# Altium footprint library TO-247-3.PcbLib: 1 footprints
Each footprint in its own frame and in the unit in brackets; x right, y up, seen from the top. Pads: shape width x height; smd on the part's side, far side on the other; paste and mask are expansions set on the pad; w line width, h text height; cw(c..) or ccw(c..) is an arc to the next point about the centre after c.
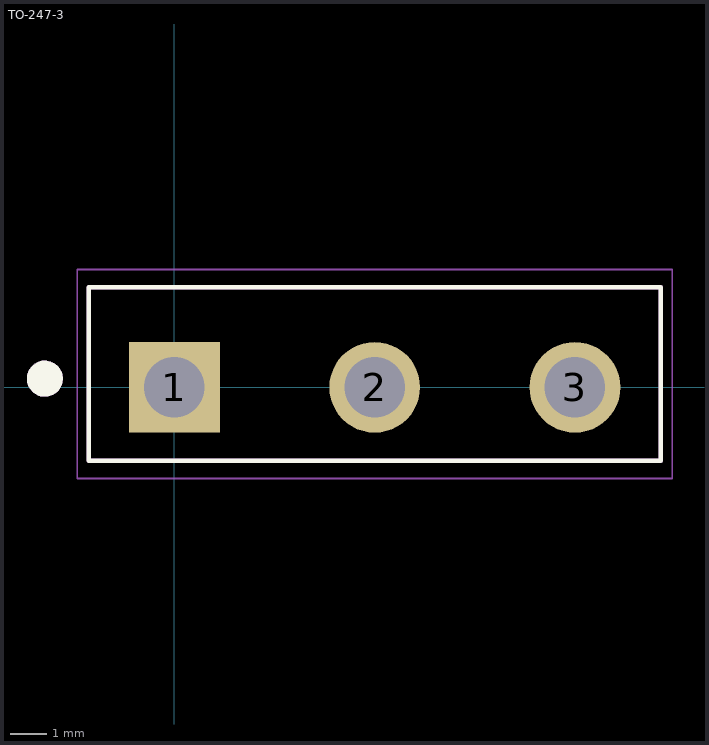
[diagram p0: the footprint, top view; thin cyan lines are the x and y axes]

## TO-247-3 [mm]
pads (3):
  rect 2.52x2.52 hole 1.68: 1(0,0)
  round 2.52 hole 1.68: 2(5.56,0) 3(11.12,0)
Top Overlay:
  circle w0.5: c-3.6,0.24 r0.25
  lines w0.127: -2.38,-2.04 -2.38,2.78 13.5,2.78 13.5,-2.04 -2.38,-2.04
Mechanical 13:
  circle w0.5: c-3.6,0.24 r0.25
  lines w0.127: -2.38,-2.04 -2.38,2.78 13.5,2.78 13.5,-2.04 -2.38,-2.04
Mechanical 15:
  lines w0.05: -2.7,-2.53 -2.7,3.27 13.82,3.27 13.82,-2.53 -2.7,-2.53
3D body "TO-247 CASE 340L-02 Horizontal Bottom.STEP": height 6.3, standoff -12, extent -2.44,-25.55 13.56,0.35